# EAGLE library part SSW-105-22-F-D-VS-K (library SSW10522FDVSK)
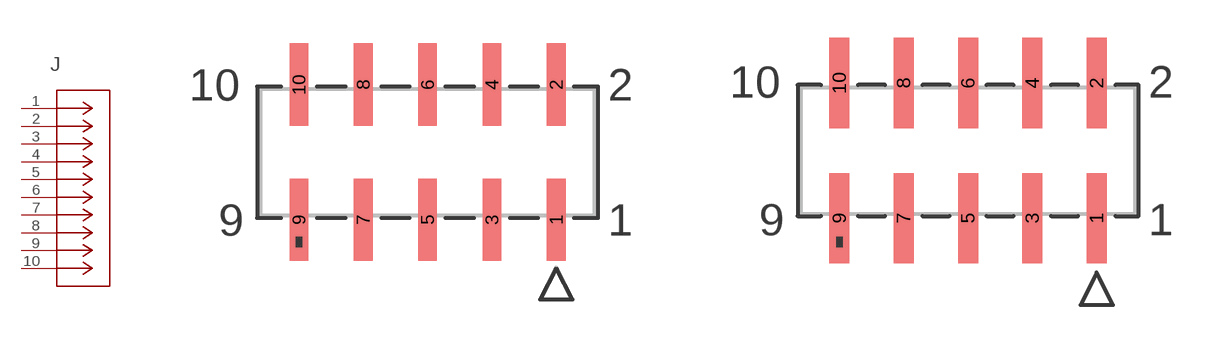
[diagram p0: symbol with the pads of CON5_SSW-D-DUMZ_HDR_SAI; footprints CON5_SSW-D-DUMZ_HDR_SAI, CON5_SSW-D-DUMZ_HDR_SAI-M]

Designator prefix J

## SSW-105-22-F-D-VS-K (BUILT_BY: EMA_UL_Team; MANUFACTURER_PART_NUMBER: SSW-105-22-F-D-VS-K; SOURCELIBRARY: Samtec_2008-01-01_SSW-D-VS-K; VENDOR: Samtec Inc)  [CON5_SSW-D-DUMZ_HDR_SAI]
1  1  pas
2  2  pas
3  3  pas
4  4  pas
5  5  pas
6  6  pas
7  7  pas
8  8  pas
9  9  pas
10  10  pas

## SSW-105-22-F-D-VS-KCON5_SSW-D-DUMZ_HDR_SAI-M (BUILT_BY: EMA_UL_Team; MANUFACTURER_PART_NUMBER: SSW-105-22-F-D-VS-K; SOURCELIBRARY: Samtec_2008-01-01_SSW-D-VS-K; VENDOR: Samtec Inc)  [CON5_SSW-D-DUMZ_HDR_SAI-M]
Pads as for CON5_SSW-D-DUMZ_HDR_SAI

## SSW-105-22-F-D-VS-KCON5_SSW-D-DUMZ_HDR_SAI-L (BUILT_BY: EMA_UL_Team; MANUFACTURER_PART_NUMBER: SSW-105-22-F-D-VS-K; SOURCELIBRARY: Samtec_2008-01-01_SSW-D-VS-K; VENDOR: Samtec Inc)  [CON5_SSW-D-DUMZ_HDR_SAI-L]
Pads as for CON5_SSW-D-DUMZ_HDR_SAI

## Footprint CON5_SSW-D-DUMZ_HDR_SAI (pad centres in mm)
smd 0.737 x 3.251: 1 5.08,-2.667; 2 5.08,2.667; 3 2.54,-2.667; 4 2.54,2.667; 5 0,-2.667; 6 0,2.667; 7 -2.54,-2.667; 8 -2.54,2.667; 9 -5.08,-2.667; 10 -5.08,2.667

## Footprint CON5_SSW-D-DUMZ_HDR_SAI-M (pad centres in mm)
smd 0.787 x 3.556: 1 5.08,-2.667; 2 5.08,2.667; 3 2.54,-2.667; 4 2.54,2.667; 5 0,-2.667; 6 0,2.667; 7 -2.54,-2.667; 8 -2.54,2.667; 9 -5.08,-2.667; 10 -5.08,2.667

## Footprint CON5_SSW-D-DUMZ_HDR_SAI-L (pad centres in mm)
smd 0.737 x 2.946: 1 5.08,-2.667; 2 5.08,2.667; 3 2.54,-2.667; 4 2.54,2.667; 5 0,-2.667; 6 0,2.667; 7 -2.54,-2.667; 8 -2.54,2.667; 9 -5.08,-2.667; 10 -5.08,2.667